# EAGLE library part TB6600HG (library EW_IC_Drivers)
PWM Chopper-Type bipolar Stepping Motor Driver IC Auto generated by make-symbol-device-package-bsdl.ulp Rev. 43 Source: TB6600HG.pdf
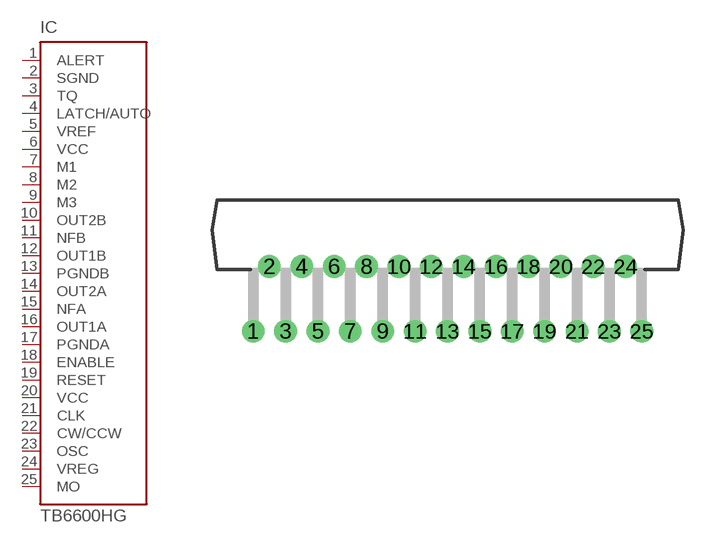
[diagram p42: symbol with the pads of HZIP25-P-1.00F; footprint HZIP25-P-1.00F]

Designator prefix IC

## TB6600HG  [HZIP25-P-1.00F]
1  ALERT  out
2  SGND  pwr
3  TQ  in
4  LATCH/AUTO  in
5  VREF  in
6  VCC  pwr
7  M1  in
8  M2  in
9  M3  in
10  OUT2B  out
11  NFB  pas
12  OUT1B  out
13  PGNDB  pwr
14  OUT2A  out
15  NFA  pas
16  OUT1A  out
17  PGNDA  pwr
18  ENABLE  in
19  RESET  in
20  VCC  in
21  CLK  in
22  CW/CCW  in
23  OSC  pas
24  VREG  out
25  MO  out

## Footprint HZIP25-P-1.00F (pad centres in mm)
HZIP25-P-1.00F Source: TB6600HG.pdf
drill 0.8 pad 1.4: 1 -12,-8.2; 2 -11,-4.2; 3 -10,-8.2; 4 -9,-4.2; 5 -8,-8.2; 6 -7,-4.2; 7 -6,-8.2; 8 -5,-4.2; 9 -4,-8.2; 10 -3,-4.2; 11 -2,-8.2; 12 -1,-4.2; 13 0,-8.2; 14 1,-4.2; 15 2,-8.2; 16 3,-4.2; 17 4,-8.2; 18 5,-4.2; 19 6,-8.2; 20 7,-4.2; 21 8,-8.2; 22 9,-4.2; 23 10,-8.2; 24 11,-4.2; 25 12,-8.2